# Altium footprint library Michel.PcbLib: 49 footprints (part 1 of 4)
Each footprint in its own frame and in the unit in brackets; x right, y up, seen from the top. Pads: shape width x height; smd on the part's side, far side on the other; paste and mask are expansions set on the pad; w line width, h text height; cw(c..) or ccw(c..) is an arc to the next point about the centre after c.
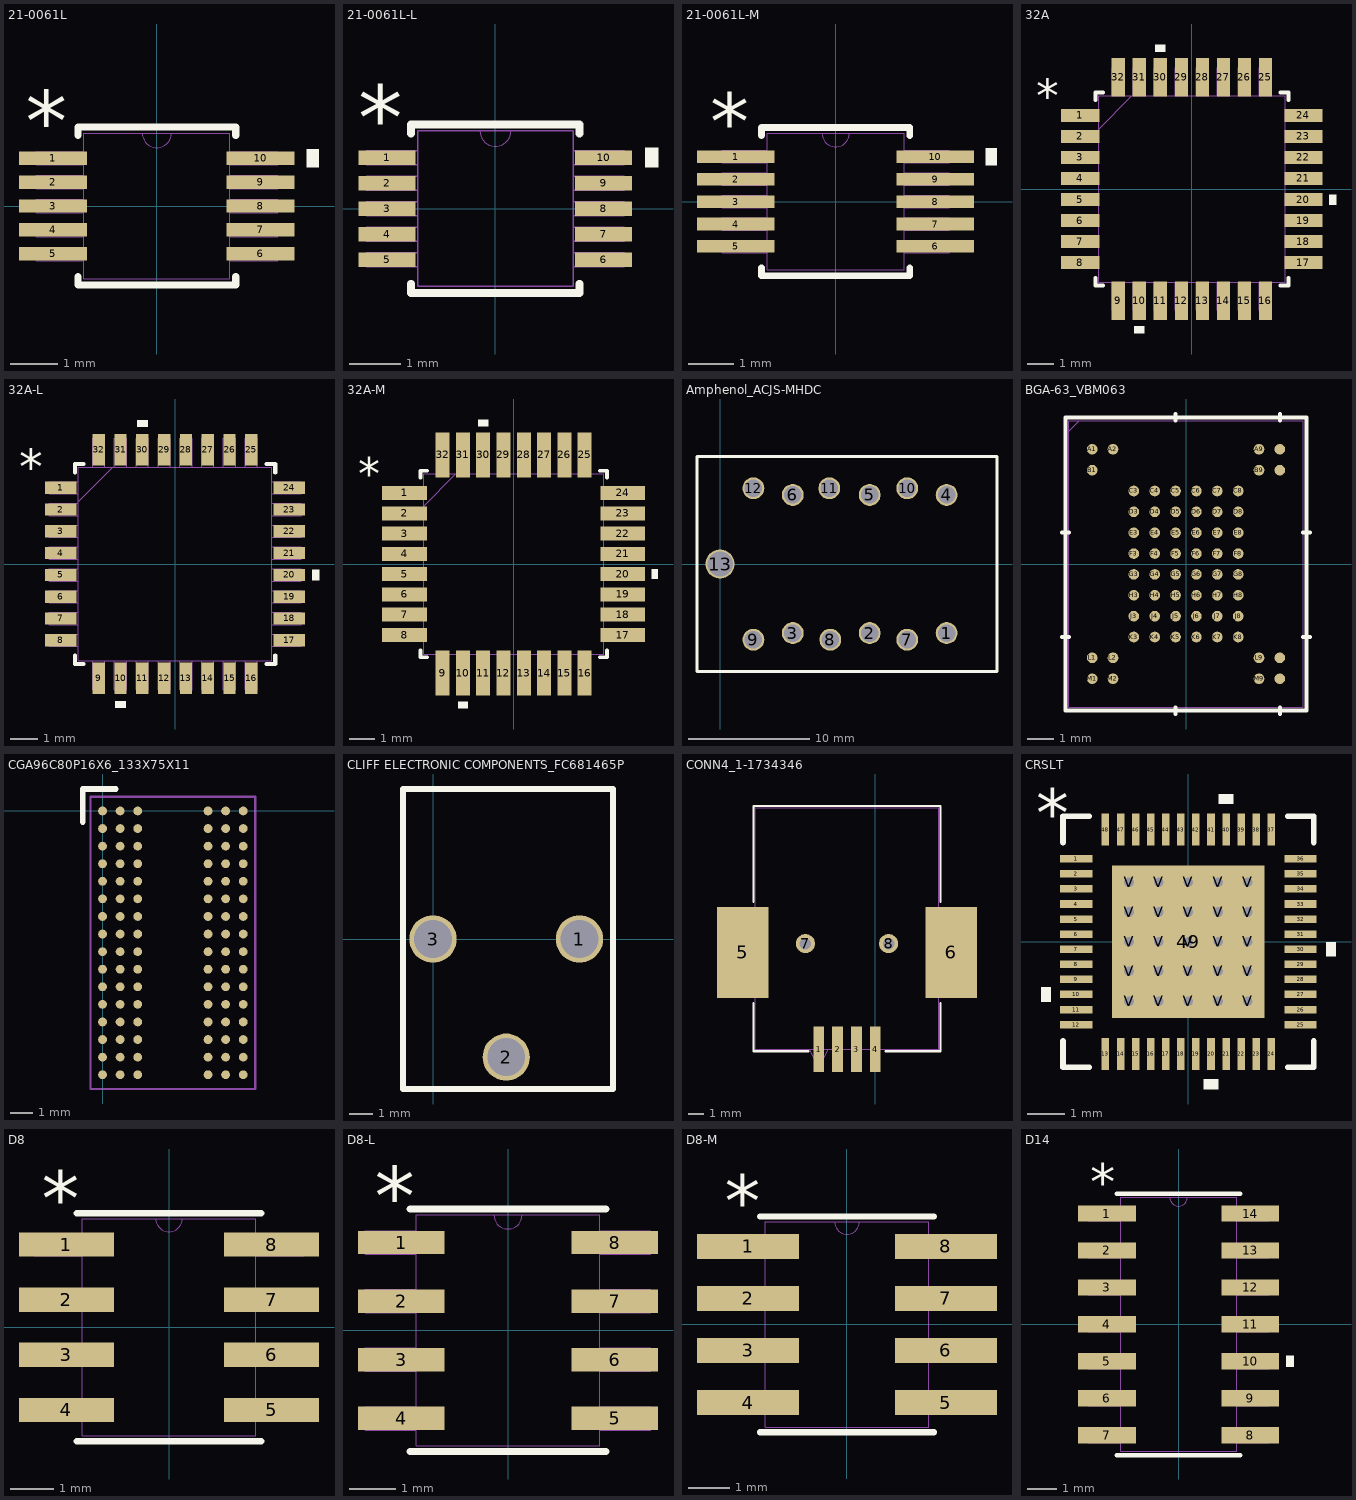
[diagram p0: the footprints below, top view; thin cyan lines are the x and y axes]

## 21-0061L [mil]
pads (10):
  rect 56x11 smd paste+0 mask+0: 1(-85.5,39.37) 2(-85.5,19.68) 3(-85.5,0) 4(-85.5,-19.68) 5(-85.5,-39.37) 6(85.5,-39.37) 7(85.5,-19.68) 8(85.5,0) 9(85.5,19.68) 10(85.5,39.37)
Top Overlay:
  region: 123.5,46.87 133.5,46.87 133.5,31.87 123.5,31.87
  lines w6: -65,-57.97 -65,-65 65,-65 65,-57.97 ; -65,57.97 -65,65 65,65 65,57.97
  text "*" at -108,45.37 h50
Mechanical 13:
  lines w0: -12,60 ccw(c0,60) 12,60
  lines w1: -99.5,-44.87 -99.5,-33.87 -60,-33.87 -60,-44.87 -99.5,-44.87 ; -99.5,-25.18 -99.5,-14.19 -60,-14.19 -60,-25.18 -99.5,-25.18 ; -99.5,-5.5 -99.5,5.5 -60,5.5 -60,-5.5 -99.5,-5.5 ; -99.5,14.19 -99.5,25.18 -60,25.18 -60,14.19 -99.5,14.19 ; -99.5,33.87 -99.5,44.87 -60,44.87 -60,33.87 -99.5,33.87 ; -60,-60 60,-60 60,60 -60,60 -60,-60 ; 60,-44.87 60,-33.87 99.5,-33.87 99.5,-44.87 60,-44.87 ; 60,-25.18 60,-14.19 99.5,-14.19 99.5,-25.18 60,-25.18 ; 60,-5.5 60,5.5 99.5,5.5 99.5,-5.5 60,-5.5 ; 60,14.19 60,25.18 99.5,25.18 99.5,14.19 60,14.19 ; 60,33.87 60,44.87 99.5,44.87 99.5,33.87 60,33.87
  text "*" at -57.5,7 h50
3D body: height 10, standoff 0, extent 0,0 10,10

## 21-0061L-L [mil]
pads (10):
  rect 44x11 smd paste+0 mask+0: 1(-83.5,39.37) 2(-83.5,19.68) 3(-83.5,0) 4(-83.5,-19.68) 5(-83.5,-39.37) 6(83.5,-39.37) 7(83.5,-19.68) 8(83.5,0) 9(83.5,19.68) 10(83.5,39.37)
Top Overlay:
  region: 115.5,46.87 125.5,46.87 125.5,31.87 115.5,31.87
  lines w6: -65,-57.97 -65,-65 65,-65 65,-57.97 ; -65,57.97 -65,65 65,65 65,57.97
  text "*" at -106,45.37 h50
Mechanical 13:
  lines w0: -12,60 ccw(c0,60) 12,60
  lines w1: -99.5,-44.87 -60,-44.87 -60,-33.87 -99.5,-33.87 -99.5,-44.87 ; -99.5,-25.18 -60,-25.18 -60,-14.19 -99.5,-14.19 -99.5,-25.18 ; -99.5,-5.5 -60,-5.5 -60,5.5 -99.5,5.5 -99.5,-5.5 ; -99.5,14.19 -60,14.19 -60,25.18 -99.5,25.18 -99.5,14.19 ; -99.5,33.87 -60,33.87 -60,44.87 -99.5,44.87 -99.5,33.87 ; -60,-60 -60,60 60,60 60,-60 -60,-60 ; 60,-44.87 99.5,-44.87 99.5,-33.87 60,-33.87 60,-44.87 ; 60,-25.18 99.5,-25.18 99.5,-14.19 60,-14.19 60,-25.18 ; 60,-5.5 99.5,-5.5 99.5,5.5 60,5.5 60,-5.5 ; 60,14.19 99.5,14.19 99.5,25.18 60,25.18 60,14.19 ; 60,33.87 99.5,33.87 99.5,44.87 60,44.87 60,33.87
  text "*" at -57.5,7 h50
3D body: height 10, standoff 0, extent 0,0 10,10

## 21-0061L-M [mil]
pads (10):
  rect 68x11 smd paste+0 mask+0: 1(-87.5,39.37) 2(-87.5,19.68) 3(-87.5,0) 4(-87.5,-19.68) 5(-87.5,-39.37) 6(87.5,-39.37) 7(87.5,-19.68) 8(87.5,0) 9(87.5,19.68) 10(87.5,39.37)
Top Overlay:
  region: 131.5,46.87 141.5,46.87 141.5,31.87 131.5,31.87
  lines w6: -65,-57.97 -65,-65 65,-65 65,-57.97 ; -65,57.97 -65,65 65,65 65,57.97
  text "*" at -110,45.37 h50
Mechanical 13:
  lines w0: -12,60 ccw(c0,60) 12,60
  lines w1: -99.5,-44.87 -60,-44.87 -60,-33.87 -99.5,-33.87 -99.5,-44.87 ; -99.5,-25.18 -60,-25.18 -60,-14.19 -99.5,-14.19 -99.5,-25.18 ; -99.5,-5.5 -60,-5.5 -60,5.5 -99.5,5.5 -99.5,-5.5 ; -99.5,14.19 -60,14.19 -60,25.18 -99.5,25.18 -99.5,14.19 ; -99.5,33.87 -60,33.87 -60,44.87 -99.5,44.87 -99.5,33.87 ; -60,-60 -60,60 60,60 60,-60 -60,-60 ; 60,-44.87 99.5,-44.87 99.5,-33.87 60,-33.87 60,-44.87 ; 60,-25.18 99.5,-25.18 99.5,-14.19 60,-14.19 60,-25.18 ; 60,-5.5 99.5,-5.5 99.5,5.5 60,5.5 60,-5.5 ; 60,14.19 99.5,14.19 99.5,25.18 60,25.18 60,14.19 ; 60,33.87 99.5,33.87 99.5,44.87 60,44.87 60,33.87
  text "*" at -57.5,7 h50
3D body: height 10, standoff 0, extent 0,0 10,10

## 32A [mm]
pads (32):
  rect 1.461x0.501 smd paste+0 mask+0: 1(-4.25,2.8) 2(-4.25,2) 3(-4.25,1.2) 4(-4.25,0.4) 5(-4.25,-0.4) 6(-4.25,-1.2) 7(-4.25,-2) 8(-4.25,-2.8) 17(4.25,-2.8) 18(4.25,-2) 19(4.25,-1.2) 20(4.25,-0.4) 21(4.25,0.4) 22(4.25,1.2) 23(4.25,2) 24(4.25,2.8)
  rect 0.501x1.461 smd paste+0 mask+0: 9(-2.8,-4.25) 10(-2,-4.25) 11(-1.2,-4.25) 12(-0.4,-4.25) 13(0.4,-4.25) 14(1.2,-4.25) 15(2,-4.25) 16(2.8,-4.25) 25(2.8,4.25) 26(2,4.25) 27(1.2,4.25) 28(0.4,4.25) 29(-0.4,4.25) 30(-1.2,4.25) 31(-2,4.25) 32(-2.8,4.25)
Top Overlay:
  region: -1.01,5.235 -1.391,5.235 -1.391,5.489 -1.01,5.489
  region: 5.235,-0.209 5.489,-0.209 5.489,-0.59 5.235,-0.59
  region: -1.81,-5.235 -2.191,-5.235 -2.191,-5.489 -1.81,-5.489
  lines w0.152: -3.677,-3.383 -3.677,-3.677 -3.383,-3.677 ; -3.677,3.383 -3.677,3.677 -3.383,3.677 ; 3.383,-3.677 3.677,-3.677 3.677,-3.383 ; 3.383,3.677 3.677,3.677 3.677,3.383
  text "*" at -5.933,2.946 h1.27
Mechanical 13:
  lines w0.025: -3.55,2.28 -2.28,3.55 ; -4.625,-3.025 -3.55,-3.025 -3.55,-2.575 -4.625,-2.575 -4.625,-3.025 ; -4.625,-2.225 -3.55,-2.225 -3.55,-1.775 -4.625,-1.775 -4.625,-2.225 ; -4.625,-1.425 -3.55,-1.425 -3.55,-0.975 -4.625,-0.975 -4.625,-1.425 ; -4.625,-0.625 -3.55,-0.625 -3.55,-0.175 -4.625,-0.175 -4.625,-0.625 ; -4.625,0.175 -3.55,0.175 -3.55,0.625 -4.625,0.625 -4.625,0.175 ; -4.625,0.975 -3.55,0.975 -3.55,1.425 -4.625,1.425 -4.625,0.975 ; -4.625,1.775 -3.55,1.775 -3.55,2.225 -4.625,2.225 -4.625,1.775 ; -4.625,2.575 -3.55,2.575 -3.55,3.025 -4.625,3.025 -4.625,2.575 ; -3.55,-3.55 -3.55,3.55 3.55,3.55 3.55,-3.55 -3.55,-3.55 ; -3.025,-4.625 -2.575,-4.625 -2.575,-3.55 -3.025,-3.55 -3.025,-4.625 ; -3.025,3.55 -3.025,4.625 -2.575,4.625 -2.575,3.55 -3.025,3.55 ; -2.225,-4.625 -1.775,-4.625 -1.775,-3.55 -2.225,-3.55 -2.225,-4.625 ; -2.225,3.55 -2.225,4.625 -1.775,4.625 -1.775,3.55 -2.225,3.55 ; -1.425,-4.625 -0.975,-4.625 -0.975,-3.55 -1.425,-3.55 -1.425,-4.625 ; -1.425,3.55 -1.425,4.625 -0.975,4.625 -0.975,3.55 -1.425,3.55 ; -0.625,-4.625 -0.175,-4.625 -0.175,-3.55 -0.625,-3.55 -0.625,-4.625 ; -0.625,3.55 -0.625,4.625 -0.175,4.625 -0.175,3.55 -0.625,3.55 ; 0.175,-4.625 0.625,-4.625 0.625,-3.55 0.175,-3.55 0.175,-4.625 ; 0.175,3.55 0.175,4.625 0.625,4.625 0.625,3.55 0.175,3.55 ; 0.975,-4.625 1.425,-4.625 1.425,-3.55 0.975,-3.55 0.975,-4.625 ; 0.975,3.55 0.975,4.625 1.425,4.625 1.425,3.55 0.975,3.55 ; 1.775,-4.625 2.225,-4.625 2.225,-3.55 1.775,-3.55 1.775,-4.625 ; 1.775,3.55 1.775,4.625 2.225,4.625 2.225,3.55 1.775,3.55 ; 2.575,-4.625 3.025,-4.625 3.025,-3.55 2.575,-3.55 2.575,-4.625 ; 2.575,3.55 2.575,4.625 3.025,4.625 3.025,3.55 2.575,3.55 ; 3.55,-3.025 4.625,-3.025 4.625,-2.575 3.55,-2.575 3.55,-3.025 ; 3.55,-2.225 4.625,-2.225 4.625,-1.775 3.55,-1.775 3.55,-2.225 ; 3.55,-1.425 4.625,-1.425 4.625,-0.975 3.55,-0.975 3.55,-1.425 ; 3.55,-0.625 4.625,-0.625 4.625,-0.175 3.55,-0.175 3.55,-0.625 ; 3.55,0.175 4.625,0.175 4.625,0.625 3.55,0.625 3.55,0.175 ; 3.55,0.975 4.625,0.975 4.625,1.425 3.55,1.425 3.55,0.975 ; 3.55,1.775 4.625,1.775 4.625,2.225 3.55,2.225 3.55,1.775 ; 3.55,2.575 4.625,2.575 4.625,3.025 3.55,3.025 3.55,2.575
  text "*" at -3.487,2.565 h1.27
3D body: height 0.25, standoff 0, extent 0,0 0.254,0.254

## 32A-L [mm]
pads (32):
  rect 1.156x0.45 smd paste+0 mask+0: 1(-4.199,2.8) 2(-4.199,2) 3(-4.199,1.2) 4(-4.199,0.4) 5(-4.199,-0.4) 6(-4.199,-1.2) 7(-4.199,-2) 8(-4.199,-2.8) 17(4.199,-2.8) 18(4.199,-2) 19(4.199,-1.2) 20(4.199,-0.4) 21(4.199,0.4) 22(4.199,1.2) 23(4.199,2) 24(4.199,2.8)
  rect 0.45x1.156 smd paste+0 mask+0: 9(-2.8,-4.199) 10(-2,-4.199) 11(-1.2,-4.199) 12(-0.4,-4.199) 13(0.4,-4.199) 14(1.2,-4.199) 15(2,-4.199) 16(2.8,-4.199) 25(2.8,4.199) 26(2,4.199) 27(1.2,4.199) 28(0.4,4.199) 29(-0.4,4.199) 30(-1.2,4.199) 31(-2,4.199) 32(-2.8,4.199)
Top Overlay:
  region: -1.01,5.031 -1.391,5.031 -1.391,5.285 -1.01,5.285
  region: 5.031,-0.209 5.285,-0.209 5.285,-0.59 5.031,-0.59
  region: -1.81,-5.031 -2.191,-5.031 -2.191,-5.285 -1.81,-5.285
  lines w0.152: -3.677,-3.358 -3.677,-3.677 -3.358,-3.677 ; -3.677,3.358 -3.677,3.677 -3.358,3.677 ; 3.358,-3.677 3.677,-3.677 3.677,-3.358 ; 3.358,3.677 3.677,3.677 3.677,3.358
  text "*" at -5.73,2.946 h1.27
Mechanical 13:
  lines w0.025: -3.55,2.28 -2.28,3.55 ; -4.625,-3.025 -3.55,-3.025 -3.55,-2.575 -4.625,-2.575 -4.625,-3.025 ; -4.625,-2.225 -3.55,-2.225 -3.55,-1.775 -4.625,-1.775 -4.625,-2.225 ; -4.625,-1.425 -3.55,-1.425 -3.55,-0.975 -4.625,-0.975 -4.625,-1.425 ; -4.625,-0.625 -3.55,-0.625 -3.55,-0.175 -4.625,-0.175 -4.625,-0.625 ; -4.625,0.175 -3.55,0.175 -3.55,0.625 -4.625,0.625 -4.625,0.175 ; -4.625,0.975 -3.55,0.975 -3.55,1.425 -4.625,1.425 -4.625,0.975 ; -4.625,1.775 -3.55,1.775 -3.55,2.225 -4.625,2.225 -4.625,1.775 ; -4.625,2.575 -3.55,2.575 -3.55,3.025 -4.625,3.025 -4.625,2.575 ; -3.55,-3.55 -3.55,3.55 3.55,3.55 3.55,-3.55 -3.55,-3.55 ; -3.025,-4.625 -2.575,-4.625 -2.575,-3.55 -3.025,-3.55 -3.025,-4.625 ; -3.025,3.55 -3.025,4.625 -2.575,4.625 -2.575,3.55 -3.025,3.55 ; -2.225,-4.625 -1.775,-4.625 -1.775,-3.55 -2.225,-3.55 -2.225,-4.625 ; -2.225,3.55 -2.225,4.625 -1.775,4.625 -1.775,3.55 -2.225,3.55 ; -1.425,-4.625 -0.975,-4.625 -0.975,-3.55 -1.425,-3.55 -1.425,-4.625 ; -1.425,3.55 -1.425,4.625 -0.975,4.625 -0.975,3.55 -1.425,3.55 ; -0.625,-4.625 -0.175,-4.625 -0.175,-3.55 -0.625,-3.55 -0.625,-4.625 ; -0.625,3.55 -0.625,4.625 -0.175,4.625 -0.175,3.55 -0.625,3.55 ; 0.175,-4.625 0.625,-4.625 0.625,-3.55 0.175,-3.55 0.175,-4.625 ; 0.175,3.55 0.175,4.625 0.625,4.625 0.625,3.55 0.175,3.55 ; 0.975,-4.625 1.425,-4.625 1.425,-3.55 0.975,-3.55 0.975,-4.625 ; 0.975,3.55 0.975,4.625 1.425,4.625 1.425,3.55 0.975,3.55 ; 1.775,-4.625 2.225,-4.625 2.225,-3.55 1.775,-3.55 1.775,-4.625 ; 1.775,3.55 1.775,4.625 2.225,4.625 2.225,3.55 1.775,3.55 ; 2.575,-4.625 3.025,-4.625 3.025,-3.55 2.575,-3.55 2.575,-4.625 ; 2.575,3.55 2.575,4.625 3.025,4.625 3.025,3.55 2.575,3.55 ; 3.55,-3.025 4.625,-3.025 4.625,-2.575 3.55,-2.575 3.55,-3.025 ; 3.55,-2.225 4.625,-2.225 4.625,-1.775 3.55,-1.775 3.55,-2.225 ; 3.55,-1.425 4.625,-1.425 4.625,-0.975 3.55,-0.975 3.55,-1.425 ; 3.55,-0.625 4.625,-0.625 4.625,-0.175 3.55,-0.175 3.55,-0.625 ; 3.55,0.175 4.625,0.175 4.625,0.625 3.55,0.625 3.55,0.175 ; 3.55,0.975 4.625,0.975 4.625,1.425 3.55,1.425 3.55,0.975 ; 3.55,1.775 4.625,1.775 4.625,2.225 3.55,2.225 3.55,1.775 ; 3.55,2.575 4.625,2.575 4.625,3.025 3.55,3.025 3.55,2.575
  text "*" at -3.487,2.565 h1.27
3D body: height 0.25, standoff 0, extent 0,0 0.254,0.254

## 32A-M [mm]
pads (32):
  rect 1.766x0.552 smd paste+0 mask+0: 1(-4.301,2.8) 2(-4.301,2) 3(-4.301,1.2) 4(-4.301,0.4) 5(-4.301,-0.4) 6(-4.301,-1.2) 7(-4.301,-2) 8(-4.301,-2.8) 17(4.301,-2.8) 18(4.301,-2) 19(4.301,-1.2) 20(4.301,-0.4) 21(4.301,0.4) 22(4.301,1.2) 23(4.301,2) 24(4.301,2.8)
  rect 0.552x1.766 smd paste+0 mask+0: 9(-2.8,-4.301) 10(-2,-4.301) 11(-1.2,-4.301) 12(-0.4,-4.301) 13(0.4,-4.301) 14(1.2,-4.301) 15(2,-4.301) 16(2.8,-4.301) 25(2.8,4.301) 26(2,4.301) 27(1.2,4.301) 28(0.4,4.301) 29(-0.4,4.301) 30(-1.2,4.301) 31(-2,4.301) 32(-2.8,4.301)
Top Overlay:
  region: -1.01,5.438 -1.391,5.438 -1.391,5.692 -1.01,5.692
  region: 5.438,-0.209 5.692,-0.209 5.692,-0.59 5.438,-0.59
  region: -1.81,-5.438 -2.191,-5.438 -2.191,-5.692 -1.81,-5.692
  lines w0.152: -3.677,-3.409 -3.677,-3.677 -3.409,-3.677 ; -3.677,3.409 -3.677,3.677 -3.409,3.677 ; 3.409,-3.677 3.677,-3.677 3.677,-3.409 ; 3.409,3.677 3.677,3.677 3.677,3.409
  text "*" at -6.136,2.946 h1.27
Mechanical 13:
  lines w0.025: -3.55,2.28 -2.28,3.55 ; -4.625,-3.025 -3.55,-3.025 -3.55,-2.575 -4.625,-2.575 -4.625,-3.025 ; -4.625,-2.225 -3.55,-2.225 -3.55,-1.775 -4.625,-1.775 -4.625,-2.225 ; -4.625,-1.425 -3.55,-1.425 -3.55,-0.975 -4.625,-0.975 -4.625,-1.425 ; -4.625,-0.625 -3.55,-0.625 -3.55,-0.175 -4.625,-0.175 -4.625,-0.625 ; -4.625,0.175 -3.55,0.175 -3.55,0.625 -4.625,0.625 -4.625,0.175 ; -4.625,0.975 -3.55,0.975 -3.55,1.425 -4.625,1.425 -4.625,0.975 ; -4.625,1.775 -3.55,1.775 -3.55,2.225 -4.625,2.225 -4.625,1.775 ; -4.625,2.575 -3.55,2.575 -3.55,3.025 -4.625,3.025 -4.625,2.575 ; -3.55,-3.55 -3.55,3.55 3.55,3.55 3.55,-3.55 -3.55,-3.55 ; -3.025,-4.625 -2.575,-4.625 -2.575,-3.55 -3.025,-3.55 -3.025,-4.625 ; -3.025,3.55 -3.025,4.625 -2.575,4.625 -2.575,3.55 -3.025,3.55 ; -2.225,-4.625 -1.775,-4.625 -1.775,-3.55 -2.225,-3.55 -2.225,-4.625 ; -2.225,3.55 -2.225,4.625 -1.775,4.625 -1.775,3.55 -2.225,3.55 ; -1.425,-4.625 -0.975,-4.625 -0.975,-3.55 -1.425,-3.55 -1.425,-4.625 ; -1.425,3.55 -1.425,4.625 -0.975,4.625 -0.975,3.55 -1.425,3.55 ; -0.625,-4.625 -0.175,-4.625 -0.175,-3.55 -0.625,-3.55 -0.625,-4.625 ; -0.625,3.55 -0.625,4.625 -0.175,4.625 -0.175,3.55 -0.625,3.55 ; 0.175,-4.625 0.625,-4.625 0.625,-3.55 0.175,-3.55 0.175,-4.625 ; 0.175,3.55 0.175,4.625 0.625,4.625 0.625,3.55 0.175,3.55 ; 0.975,-4.625 1.425,-4.625 1.425,-3.55 0.975,-3.55 0.975,-4.625 ; 0.975,3.55 0.975,4.625 1.425,4.625 1.425,3.55 0.975,3.55 ; 1.775,-4.625 2.225,-4.625 2.225,-3.55 1.775,-3.55 1.775,-4.625 ; 1.775,3.55 1.775,4.625 2.225,4.625 2.225,3.55 1.775,3.55 ; 2.575,-4.625 3.025,-4.625 3.025,-3.55 2.575,-3.55 2.575,-4.625 ; 2.575,3.55 2.575,4.625 3.025,4.625 3.025,3.55 2.575,3.55 ; 3.55,-3.025 4.625,-3.025 4.625,-2.575 3.55,-2.575 3.55,-3.025 ; 3.55,-2.225 4.625,-2.225 4.625,-1.775 3.55,-1.775 3.55,-2.225 ; 3.55,-1.425 4.625,-1.425 4.625,-0.975 3.55,-0.975 3.55,-1.425 ; 3.55,-0.625 4.625,-0.625 4.625,-0.175 3.55,-0.175 3.55,-0.625 ; 3.55,0.175 4.625,0.175 4.625,0.625 3.55,0.625 3.55,0.175 ; 3.55,0.975 4.625,0.975 4.625,1.425 3.55,1.425 3.55,0.975 ; 3.55,1.775 4.625,1.775 4.625,2.225 3.55,2.225 3.55,1.775 ; 3.55,2.575 4.625,2.575 4.625,3.025 3.55,3.025 3.55,2.575
  text "*" at -3.487,2.565 h1.27
3D body: height 0.25, standoff 0, extent 0,0 0.254,0.254

## Amphenol_ACJS-MHDC [mm] "Dual jack"
height 30
pads (13):
  round 1.8 hole 1.45: 1(18.7,-5.7) 2(12.35,-5.7) 3(6,-5.7) 4(18.7,5.7) 5(12.35,5.7) 6(6,5.7) 7(15.45,-6.25) 8(9.1,-6.25) 9(2.75,-6.25) 10(15.45,6.25) 11(9.017,6.25) 12(2.75,6.25)
  round 2.4 hole 2.1: 13(0,0)
Top Overlay:
  lines w0.254: -1.905,-8.89 -1.905,0 -1.905,8.89 22.86,8.89 22.86,-8.89 -1.905,-8.89

## BGA-63_VBM063 [mm]
pads (63):
  round 0.406 smd paste+0 mask+0: A1(-3.6,4.4) A2(-2.8,4.4) A9(2.8,4.4) A10(3.6,4.4) B1(-3.6,3.6) B9(2.8,3.6) B10(3.6,3.6) C3(-2,2.8) C4(-1.2,2.8) C5(-0.4,2.8) C6(0.4,2.8) C7(1.2,2.8) C8(2,2.8) D3(-2,2) D4(-1.2,2) D5(-0.4,2) D6(0.4,2) D7(1.2,2) D8(2,2) E3(-2,1.2) E4(-1.2,1.2) E5(-0.4,1.2) E6(0.4,1.2) E7(1.2,1.2) E8(2,1.2) F3(-2,0.4) F4(-1.2,0.4) F5(-0.4,0.4) F6(0.4,0.4) F7(1.2,0.4) F8(2,0.4) G3(-2,-0.4) G4(-1.2,-0.4) G5(-0.4,-0.4) G6(0.4,-0.4) G7(1.2,-0.4) G8(2,-0.4) H3(-2,-1.2) H4(-1.2,-1.2) H5(-0.4,-1.2) H6(0.4,-1.2) H7(1.2,-1.2) H8(2,-1.2) J3(-2,-2) J4(-1.2,-2) J5(-0.4,-2) J6(0.4,-2) J7(1.2,-2) J8(2,-2) K3(-2,-2.8) K4(-1.2,-2.8) K5(-0.4,-2.8) K6(0.4,-2.8) K7(1.2,-2.8) K8(2,-2.8) L1(-3.6,-3.6) L2(-2.8,-3.6) L9(2.8,-3.6) L10(3.6,-3.6) M1(-3.6,-4.4) M2(-2.8,-4.4) M9(2.8,-4.4) M10(3.6,-4.4)
Top Overlay:
  lines w0.152: -4.75,-2.8 -4.496,-2.8 ; -4.75,1.2 -4.496,1.2 ; -0.4,-5.753 -0.4,-5.499 ; -0.4,5.499 -0.4,5.753 ; 3.6,-5.753 3.6,-5.499 ; 3.6,5.499 3.6,5.753 ; 4.496,-2.8 4.75,-2.8 ; 4.496,1.2 4.75,1.2 ; -4.623,-5.626 -4.623,5.626 4.623,5.626 4.623,-5.626 -4.623,-5.626
Mechanical 13:
  lines w0.025: -4.496,5.099 -4.096,5.499 ; -4.496,-5.499 -4.496,5.499 4.496,5.499 4.496,-5.499 -4.496,-5.499
3D body: height 0.25, standoff 0, extent 0,0 0.254,0.254

## CGA96C80P16X6_133X75X11 [mm]
pads (96):
  round 0.4 smd mask+0.02: A1(0,0) A2(0.8,0) A3(1.6,0) A7(4.8,0) A8(5.6,0) A9(6.4,0) B1(0,-0.8) B2(0.8,-0.8) B3(1.6,-0.8) B7(4.8,-0.8) B8(5.6,-0.8) B9(6.4,-0.8) C1(0,-1.6) C2(0.8,-1.6) C3(1.6,-1.6) C7(4.8,-1.6) C8(5.6,-1.6) C9(6.4,-1.6) D1(0,-2.4) D2(0.8,-2.4) D3(1.6,-2.4) D7(4.8,-2.4) D8(5.6,-2.4) D9(6.4,-2.4) E1(0,-3.2) E2(0.8,-3.2) E3(1.6,-3.2) E7(4.8,-3.2) E8(5.6,-3.2) E9(6.4,-3.2) F1(0,-4) F2(0.8,-4) F3(1.6,-4) F7(4.8,-4) F8(5.6,-4) F9(6.4,-4) G1(0,-4.8) G2(0.8,-4.8) G3(1.6,-4.8) G7(4.8,-4.8) G8(5.6,-4.8) G9(6.4,-4.8) H1(0,-5.6) H2(0.8,-5.6) H3(1.6,-5.6) H7(4.8,-5.6) H8(5.6,-5.6) H9(6.4,-5.6) J1(0,-6.4) J2(0.8,-6.4) J3(1.6,-6.4) J7(4.8,-6.4) J8(5.6,-6.4) J9(6.4,-6.4) K1(0,-7.2) K2(0.8,-7.2) K3(1.6,-7.2) K7(4.8,-7.2) K8(5.6,-7.2) K9(6.4,-7.2) L1(0,-8) L2(0.8,-8) L3(1.6,-8) L7(4.8,-8) L8(5.6,-8) L9(6.4,-8) M1(0,-8.8) M2(0.8,-8.8) M3(1.6,-8.8) M7(4.8,-8.8) M8(5.6,-8.8) M9(6.4,-8.8) N1(0,-9.6) N2(0.8,-9.6) N3(1.6,-9.6) N7(4.8,-9.6) N8(5.6,-9.6) N9(6.4,-9.6) P1(0,-10.4) P2(0.8,-10.4) P3(1.6,-10.4) P7(4.8,-10.4) P8(5.6,-10.4) P9(6.4,-10.4) R1(0,-11.2) R2(0.8,-11.2) R3(1.6,-11.2) R7(4.8,-11.2) R8(5.6,-11.2) R9(6.4,-11.2) T1(0,-12) T2(0.8,-12) T3(1.6,-12) T7(4.8,-12) T8(5.6,-12) T9(6.4,-12)
Top Overlay:
  lines w0.254: -0.9,-0.5 -0.9,1 0.6,1
Mechanical 13:
  lines w0.1: -0.55,-12.65 6.95,-12.65 6.95,0.65 -0.55,0.65 -0.55,-12.65
3D body: height 1.2, standoff 0, extent -0.55,-12.65 6.95,0.65

## CLIFF ELECTRONIC COMPONENTS_FC681465P [mm] "Support Alim 9V"
height 11
pads (3):
  round 2 hole 1.6: 1(6.2,0) 2(3.1,-5) 3(0,0)
Top Overlay:
  lines w0.254: -1.27,-6.35 7.62,-6.35 7.62,0 7.62,6.35 -1.27,6.35 -1.27,0 -1.27,-6.35

## CONN4_1-1734346 [mil]
pads (8):
  rect 28x118 smd: 1(-147,-1260) 2(-98,-1260) 3(-49,-1260) 4(0,-1260)
  rect 134x238 smd: 5(-346,-1007) 6(199,-1007)
  round 50 / inner round 60 / far side round 50 hole 30 paste+0 mask+0: 7(-182,-984) 8(35,-984)
Top Overlay:
  lines w6: -317.5,-1139.1 -317.5,-1265 -174.1,-1265 ; -317.5,-874.9 -317.5,-625 170.5,-625 170.5,-874.9 ; 27.1,-1265 170.5,-1265 170.5,-1139.1
Mechanical 13:
  lines w1: -172,-1260 -147,-1310 -122,-1260 ; -312.5,-1260 165.5,-1260 165.5,-630 -312.5,-630 -312.5,-1260
3D body: height 10, standoff 0, extent 0,0 10,10

## CRSLT [mm]
pads (74):
  rect 0.85x0.2 smd paste-0.1: 1(-2.975,2.2) 2(-2.975,1.8) 3(-2.975,1.4) 4(-2.975,1) 5(-2.975,0.6) 6(-2.975,0.2) 7(-2.975,-0.2) 8(-2.975,-0.6) 9(-2.975,-1) 10(-2.975,-1.4) 11(-2.975,-1.8) 12(-2.975,-2.2) 25(2.975,-2.2) 26(2.975,-1.8) 27(2.975,-1.4) 28(2.975,-1) 29(2.975,-0.6) 30(2.975,-0.2) 31(2.975,0.2) 32(2.975,0.6) 33(2.975,1) 34(2.975,1.4) 35(2.975,1.8) 36(2.975,2.2)
  rect 0.2x0.85 smd paste-0.1: 13(-2.2,-2.975) 14(-1.8,-2.975) 15(-1.4,-2.975) 16(-1,-2.975) 17(-0.6,-2.975) 18(-0.2,-2.975) 19(0.2,-2.975) 20(0.6,-2.975) 21(1,-2.975) 22(1.4,-2.975) 23(1.8,-2.975) 24(2.2,-2.975) 37(2.2,2.975) 38(1.8,2.975) 39(1.4,2.975) 40(1,2.975) 41(0.6,2.975) 42(0.2,2.975) 43(-0.2,2.975) 44(-0.6,2.975) 45(-1,2.975) 46(-1.4,2.975) 47(-1.8,2.975) 48(-2.2,2.975)
  rect 4.05x4.05 smd paste-2.012 mask-2.007: 49(0,0)
  round 0.508 / inner round 1.524 / far side round 0.508 hole 0.254: V(-1.575,-1.575) V(-1.575,-0.787) V(-1.575,0) V(-1.575,0.787) V(-1.575,1.575) V(-0.787,-1.575) V(-0.787,-0.787) V(-0.787,0) V(-0.787,0.787) V(-0.787,1.575) V(0,-1.575) V(0,-0.787) V(0,0) V(0,0.787) V(0,1.575) V(0.787,-1.575) V(0.787,-0.787) V(0.787,0) V(0.787,0.787) V(0.787,1.575) V(1.575,-1.575) V(1.575,-0.787) V(1.575,0) V(1.575,0.787) V(1.575,1.575)
Top Overlay:
  region: 1.191,3.654 0.81,3.654 0.81,3.908 1.191,3.908
  region: 3.654,-0.009 3.908,-0.009 3.908,-0.39 3.654,-0.39
  region: 0.79,-3.654 0.409,-3.654 0.409,-3.908 0.79,-3.908
  region: -3.654,-1.209 -3.908,-1.209 -3.908,-1.59 -3.654,-1.59
  lines w0.152: -3.329,-2.633 -3.329,-3.329 -2.633,-3.329 ; -3.329,2.633 -3.329,3.329 -2.633,3.329 ; 2.633,-3.329 3.329,-3.329 3.329,-2.633 ; 2.633,3.329 3.329,3.329 3.329,2.633
  text "*" at -4.035,2.781 h1.27
Top Paste:
  drawing of 84 lines, arcs and shapes, not listed
Top Solder:
  drawing of 60 lines, arcs and shapes, not listed
Mechanical 13:
  text "*" at -4.035,2.781 h1.27
3D body: height 0.92, standoff 0, extent -3.126,-3.126 3.126,3.126

## D8 [mil]
pads (8):
  rect 86x22 smd paste+0 mask+0: 1(-93,75) 2(-93,25) 3(-93,-25) 4(-93,-75) 5(93,-75) 6(93,-25) 7(93,25) 8(93,75)
Top Overlay:
  lines w6: -83.5,-103.5 83.5,-103.5 ; -83.5,103.5 83.5,103.5
  text "*" at -115.5,92 h50
Mechanical 13:
  lines w0: -12,98.5 ccw(c0,98.5) 12,98.5
  lines w1: -122,-85 -78.5,-85 -78.5,-65 -122,-65 -122,-85 ; -122,-35 -78.5,-35 -78.5,-15 -122,-15 -122,-35 ; -122,15 -78.5,15 -78.5,35 -122,35 -122,15 ; -122,65 -78.5,65 -78.5,85 -122,85 -122,65 ; -78.5,-98.5 -78.5,98.5 78.5,98.5 78.5,-98.5 -78.5,-98.5 ; 78.5,-85 122,-85 122,-65 78.5,-65 78.5,-85 ; 78.5,-35 122,-35 122,-15 78.5,-15 78.5,-35 ; 78.5,15 122,15 122,35 78.5,35 78.5,15 ; 78.5,65 122,65 122,85 78.5,85 78.5,65
  text "*" at -76,45.5 h50
3D body: height 10, standoff 0, extent 0,0 10,10

## D8-L [mil]
pads (8):
  rect 74x20 smd paste+0 mask+0: 1(-91,75) 2(-91,25) 3(-91,-25) 4(-91,-75) 5(91,-75) 6(91,-25) 7(91,25) 8(91,75)
Top Overlay:
  lines w6: -83.5,-103.5 83.5,-103.5 ; -83.5,103.5 83.5,103.5
  text "*" at -113.5,90 h50
Mechanical 13:
  lines w0: -12,98.5 ccw(c0,98.5) 12,98.5
  lines w1: -122,-85 -122,-65 -78.5,-65 -78.5,-85 -122,-85 ; -122,-35 -122,-15 -78.5,-15 -78.5,-35 -122,-35 ; -122,15 -122,35 -78.5,35 -78.5,15 -122,15 ; -122,65 -122,85 -78.5,85 -78.5,65 -122,65 ; -78.5,-98.5 78.5,-98.5 78.5,98.5 -78.5,98.5 -78.5,-98.5 ; 78.5,-85 78.5,-65 122,-65 122,-85 78.5,-85 ; 78.5,-35 78.5,-15 122,-15 122,-35 78.5,-35 ; 78.5,15 78.5,35 122,35 122,15 78.5,15 ; 78.5,65 78.5,85 122,85 122,65 78.5,65
  text "*" at -76,45.5 h50
3D body: height 10, standoff 0, extent 0,0 10,10

## D8-M [mil]
pads (8):
  rect 98x24 smd paste+0 mask+0: 1(-95,75) 2(-95,25) 3(-95,-25) 4(-95,-75) 5(95,-75) 6(95,-25) 7(95,25) 8(95,75)
Top Overlay:
  lines w6: -83.5,-103.5 83.5,-103.5 ; -83.5,103.5 83.5,103.5
  text "*" at -117.5,94 h50
Mechanical 13:
  lines w0: -12,98.5 ccw(c0,98.5) 12,98.5
  lines w1: -122,-85 -122,-65 -78.5,-65 -78.5,-85 -122,-85 ; -122,-35 -122,-15 -78.5,-15 -78.5,-35 -122,-35 ; -122,15 -122,35 -78.5,35 -78.5,15 -122,15 ; -122,65 -122,85 -78.5,85 -78.5,65 -122,65 ; -78.5,-98.5 78.5,-98.5 78.5,98.5 -78.5,98.5 -78.5,-98.5 ; 78.5,-85 78.5,-65 122,-65 122,-85 78.5,-85 ; 78.5,-35 78.5,-15 122,-15 122,-35 78.5,-35 ; 78.5,15 78.5,35 122,35 122,15 78.5,15 ; 78.5,65 78.5,85 122,85 122,65 78.5,65
  text "*" at -76,45.5 h50
3D body: height 10, standoff 0, extent 0,0 10,10

## D14 [mil]
pads (14):
  rect 78x22 smd paste+0 mask+0: 1(-97,150) 2(-97,100) 3(-97,50) 4(-97,0) 5(-97,-50) 6(-97,-100) 7(-97,-150) 8(97,-150) 9(97,-100) 10(97,-50) 11(97,0) 12(97,50) 13(97,100) 14(97,150)
Top Overlay:
  region: 146,-42.5 156,-42.5 156,-57.5 146,-57.5
  lines w6: -83.5,-177 83.5,-177 ; -83.5,177 83.5,177
  text "*" at -119.5,167 h50
Mechanical 13:
  lines w0: -12,172 ccw(c0,172) 12,172
  lines w1: -122,-160 -122,-140 -78.5,-140 -78.5,-160 -122,-160 ; -122,-110 -122,-90 -78.5,-90 -78.5,-110 -122,-110 ; -122,-60 -122,-40 -78.5,-40 -78.5,-60 -122,-60 ; -122,-10 -122,10 -78.5,10 -78.5,-10 -122,-10 ; -122,40 -122,60 -78.5,60 -78.5,40 -122,40 ; -122,90 -122,110 -78.5,110 -78.5,90 -122,90 ; -122,140 -122,160 -78.5,160 -78.5,140 -122,140 ; -78.5,-172 78.5,-172 78.5,172 -78.5,172 -78.5,-172 ; 78.5,-160 78.5,-140 122,-140 122,-160 78.5,-160 ; 78.5,-110 78.5,-90 122,-90 122,-110 78.5,-110 ; 78.5,-60 78.5,-40 122,-40 122,-60 78.5,-60 ; 78.5,-10 78.5,10 122,10 122,-10 78.5,-10 ; 78.5,40 78.5,60 122,60 122,40 78.5,40 ; 78.5,90 78.5,110 122,110 122,90 78.5,90 ; 78.5,140 78.5,160 122,160 122,140 78.5,140
  text "*" at -76,119 h50
3D body: height 10, standoff 0, extent 0,0 10,10